# Altium schematic symbol library THD 4000 Series Components.SchLib: 125 symbols (part 2 of 3)
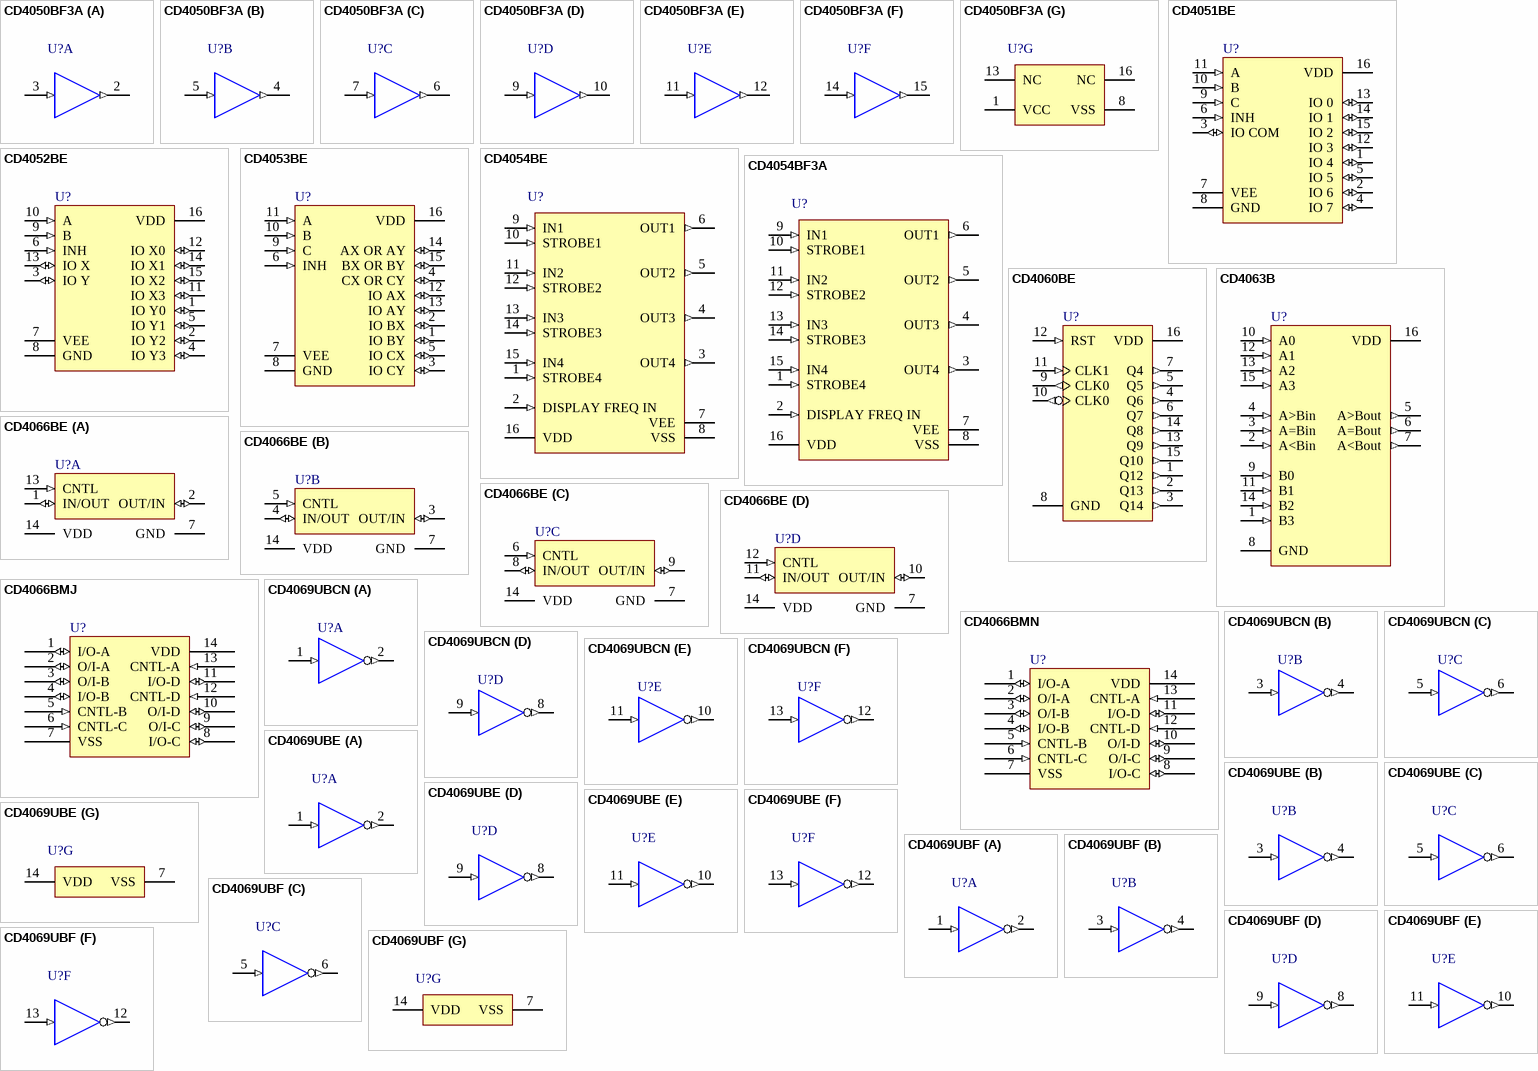
[diagram p8: symbols CD4050BF3A to CD4069UBF]

## CD4054BF3A
designator U?
CMOS 4-Segment Liquid-Crystal Display Driver, J0016A, TUBE; Generic Part Number: CD4054B-MIL; Manufacturer: Texas Instruments; PartNumber: CD4054BF3A; ICC @ Nom Voltage(Max)(mA): 0.06; F @ Nom Voltage(Max)(Mhz): 8; Rating: Military; Voltage(Nom)(V): 10; tpd @ Nom Voltage(Max)(ns): 800; DatasheetVersion: SCHS048C; PackageReference: J0016A; Operating Temperature Range(C): -55 to 125; ComponentLink1Description: Manufacturer URL; ComponentLink1URL: http://www.ti.com/; ComponentLink2Description: Datasheet; ComponentLink2URL: http://www.ti.com/lit/ds/symlink/cd4054b-mil.pdf; ComponentLink3Description: Package Specification; ComponentLink3URL: http://www.ti.com/lit/ml/mcer002d/mcer002d.pdf
footprint DIP16-300 (DIP, Molded; 16 Leads; Row Spacing 7.62 mm; Pitch 2.54 mm)
pins: 1 STROBE4 (in), 2 DISPLAY FREQ IN (in), 3 OUT4 (out), 4 OUT3 (out), 5 OUT2 (out), 6 OUT1 (out), 7 VEE (power), 8 VSS (power), 9 IN1 (in), 10 STROBE1 (in), 11 IN2 (in), 12 STROBE2 (in), 13 IN3 (in), 14 STROBE3 (in), 15 IN4 (in), 16 VDD (power)

## CD4060BE
designator U?
14-Stage Ripple Carry Binary Counter/Divider and Oscillator; Published: 8-Jun-2000; LatestRevisionDate: 06-Jun-2005; LatestRevisionNote: Stylized 3D Model Added.; DatasheetVersion: Sep-1988; PackageVersion: Apr-1996; PackageReference: DIP16; Publisher: Altium Limited; PackageDescription: DIP; 16 Leads; Row Spacing 7.62 mm; Pitch 2.54 mm; ComponentLink1Description: Manufacturer Link; ComponentLink1URL: http://www.st.com/
footprint DIP16-300 (DIP, Molded; 16 Leads; Row Spacing 7.62 mm; Pitch 2.54 mm)
pins: 1 Q12 (out), 2 Q13 (out), 3 Q14 (out), 4 Q6 (out), 5 Q5 (out), 6 Q7 (out), 7 Q4 (out), 8 GND (power), 9 CLK0 (out), 10 CLK0 (out), 11 CLK1 (in), 12 RST (in), 13 Q9 (out), 14 Q8 (out), 15 Q10 (out), 16 VDD (power)

## CD4063B
designator U?
4-Bit Magnitude Comparator; Published: 8-Jun-2000; LatestRevisionDate: 06-Jun-2005; LatestRevisionNote: Stylized 3D Model Added.; DatasheetVersion: Jun-1989; PackageVersion: Apr-1996; PackageReference: DIP16; Publisher: Altium Limited; PackageDescription: DIP; 16 Leads; Row Spacing 7.62 mm; Pitch 2.54 mm; ComponentLink1Description: Manufacturer Link; ComponentLink1URL: http://www.st.com/
footprint DIP16-300 (DIP, Molded; 16 Leads; Row Spacing 7.62 mm; Pitch 2.54 mm)
pins: 1 B3 (in), 2 A<Bin (in), 3 A=Bin (in), 4 A>Bin (in), 5 A>Bout (out), 6 A=Bout (out), 7 A<Bout (out), 8 GND (power), 9 B0 (in), 10 A0 (in), 11 B1 (in), 12 A1 (in), 13 A2 (in), 14 B2 (in), 15 A3 (in), 16 VDD (power)

## CD4066BE
designator U?
Quad Bilateral Switch For Transmission or Multiplexing of Analog or Digital Signals; Published: 8-Jun-2000; LatestRevisionDate: 04-Mar-2005; LatestRevisionNote: Stylized 3D Model Added.; DatasheetVersion: Jun-1989; PackageVersion: Jan-1997; PackageReference: DIP14; Publisher: Altium Limited; PackageDescription: DIP; 14 Leads; Row Spacing 7.62 mm; Pitch 2.54 mm; ComponentLink1Description: Manufacturer Link; ComponentLink1URL: http://www.st.com/; ComponentLink2Description: Datasheet; ComponentLink2URL: http://www.st.com/stonline/products/literature/ds/2057/hcf4066.pdf
footprint DIP-14
pins on every part: 7 GND (power) hidden to GND, 14 VDD (power) hidden to VDD
part A pins: 1 IN/OUT (io), 2 OUT/IN (io), 13 CNTL (in)
part B pins: 3 OUT/IN (io), 4 IN/OUT (io), 5 CNTL (in)
part C pins: 6 CNTL (in), 8 IN/OUT (io), 9 OUT/IN (io)
part D pins: 10 OUT/IN (io), 11 IN/OUT (io), 12 CNTL (in)

## CD4066BMJ
designator U?
Quad Bilateral Switch; Manufacturer: National Semiconductor; Class: Logic; Published: 21/4/2004; Publisher: Yazgac Technologies; SubClass: Switch
footprint DIP-14
pins: 1 I/O-A (io), 2 O/I-A (io), 3 O/I-B (io), 4 I/O-B (io), 5 CNTL-B (in), 6 CNTL-C (in), 7 VSS (power), 8 I/O-C (io), 9 O/I-C (io), 10 O/I-D (io), 11 I/O-D (io), 12 CNTL-D (in), 13 CNTL-A (in), 14 VDD (power)

## CD4066BMN
designator U?
Quad Bilateral Switch; Manufacturer: National Semiconductor; Class: Logic; Published: 21/04/2004; Publisher: Yazgac Technologies; SubClass: Switch
footprint DIP-14
pins: 1 I/O-A (io), 2 O/I-A (io), 3 O/I-B (io), 4 I/O-B (io), 5 CNTL-B (in), 6 CNTL-C (in), 7 VSS (power), 8 I/O-C (io), 9 O/I-C (io), 10 O/I-D (io), 11 I/O-D (io), 12 CNTL-D (in), 13 CNTL-A (in), 14 VDD (power)

## CD4069UBCN
designator U?
Hex Inverter, 14-Pin PDIP; IC_Technology: C; Published: 17-Jul-2002; LatestRevisionDate: 29-May-2009; LatestRevisionNote: Component Body Added.; DatasheetVersion: Jan-1999; PackageVersion: 2000; PackageReference: N14A; Publisher: Altium Limited; PackageDescription: DIP, 14-Pin, Row Spacing 7.62 mm, Pitch 2.54 mm; ComponentLink1Description: Manufacturer Link; ComponentLink1URL: http://www.fairchildsemi.com/; ComponentLink2Description: Datasheet; ComponentLink2URL: http://www.fairchildsemi.com/ds/CD%2FCD4069UBC.pdf
footprint DIP-14
pins on every part: 7 GND (power) hidden to GND, 14 VDD (power) hidden to VDD
part A pins: 1 I (in), 2 O (out)
part B pins: 3 I (in), 4 O (out)
part C pins: 5 I (in), 6 O (out)
part D pins: 8 O (out), 9 I (in)
part E pins: 10 O (out), 11 I (in)
part F pins: 12 O (out), 13 I (in)

## CD4069UBE
designator U?
CMOS Hex Inverter, N0014A, TUBE; Generic Part Number: CD4069UB; Manufacturer: Texas Instruments; PartNumber: CD4069UBE; VCC(Max)(V): 18; VCC(Min)(V): 3; ICC @ Nom Voltage(Max)(mA): 0.0075; Bits(#): 6; F @ Nom Voltage(Max)(Mhz): 12; Rating: Catalog; Technology Family: CD4000; Voltage(Nom)(V): 5; Schmitt Trigger: No; Output Drive (IOL/IOH)(Max)(mA): -1/1; tpd @ Nom Voltage(Max)(ns): 110; DatasheetVersion: SCHS054C; PackageReference: N0014A; Output Type: CMOS; Input Type: CMOS; Operating Temperature Range(C): -55 to 125; ComponentLink1Description: Manufacturer URL; ComponentLink1URL: http://www.ti.com/; ComponentLink2Description: Datasheet; ComponentLink2URL: http://www.ti.com/lit/ds/symlink/cd4069ub.pdf; ComponentLink3Description: Package Specification; ComponentLink3URL: http://www.ti.com/lit/ml/mpdi002c/mpdi002c.pdf
footprint DIP-14
part A pins: 1 A (in), 2 G=~{A} (out)
part B pins: 3 B (in), 4 H=~{B} (out)
part C pins: 5 C (in), 6 I=~{C} (out)
part D pins: 8 J=~{D} (out), 9 D (in)
part E pins: 10 K=~{E} (out), 11 E (in)
part F pins: 12 L=~{F} (out), 13 F (in)
part G pins: 7 VSS (power), 14 VDD (power)

## CD4069UBF
designator U?
CMOS Hex Inverter, J0014A, TUBE; Generic Part Number: CD4069UB-MIL; Manufacturer: Texas Instruments; PartNumber: CD4069UBF; VCC(Max)(V): 18; VCC(Min)(V): 3; ICC @ Nom Voltage(Max)(mA): 0.0075; F @ Nom Voltage(Max)(Mhz): 12; Rating: Military; Technology Family: CD4000; Voltage(Nom)(V): 5; Schmitt Trigger: No; tpd @ Nom Voltage(Max)(ns): 110; DatasheetVersion: SCHS054C; PackageReference: J0014A; Output Type: CMOS; Input Type: CMOS; Operating Temperature Range(C): -55 to 125; ComponentLink1Description: Manufacturer URL; ComponentLink1URL: http://www.ti.com/; ComponentLink2Description: Datasheet; ComponentLink2URL: http://www.ti.com/lit/ds/symlink/cd4069ub-mil.pdf; ComponentLink3Description: Package Specification; ComponentLink3URL: http://www.ti.com/lit/ml/mcer002d/mcer002d.pdf
footprint DIP-14
part A pins: 1 A (in), 2 G=~{A} (out)
part B pins: 3 B (in), 4 H=~{B} (out)
part C pins: 5 C (in), 6 I=~{C} (out)
part D pins: 8 J=~{D} (out), 9 D (in)
part E pins: 10 K=~{E} (out), 11 E (in)
part F pins: 12 L=~{F} (out), 13 F (in)
part G pins: 7 VSS (power), 14 VDD (power)

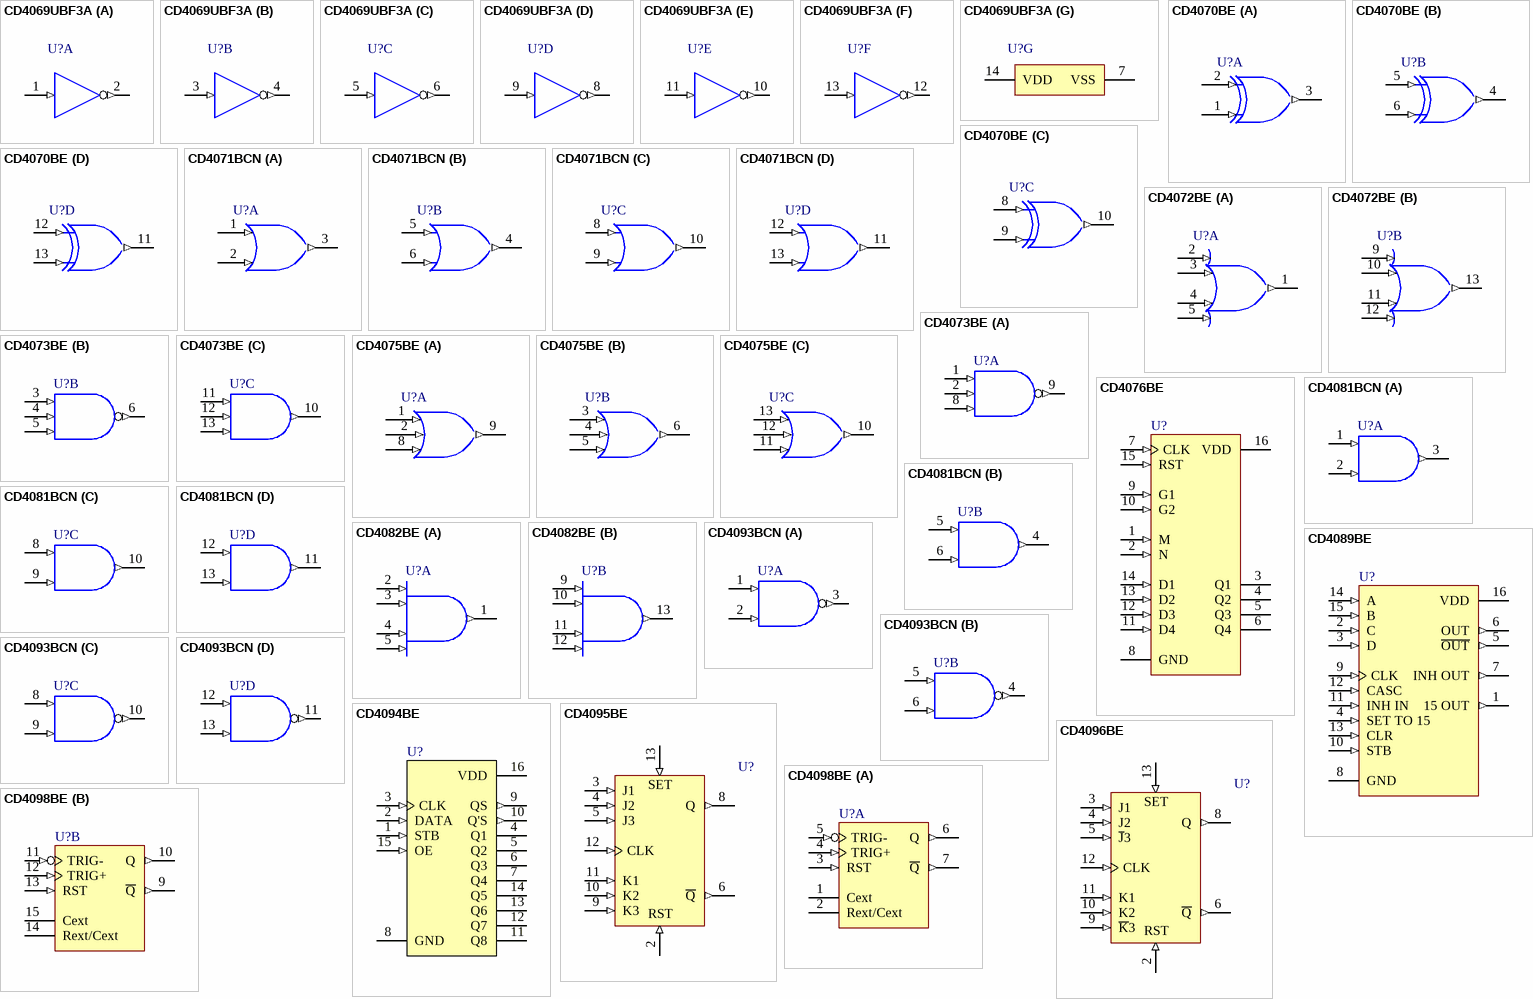
[diagram p5: symbols CD4069UBF3A to CD4098BE]

## CD4069UBF3A
designator U?
CMOS Hex Inverter, J0014A, TUBE; Generic Part Number: CD4069UB-MIL; Manufacturer: Texas Instruments; PartNumber: CD4069UBF3A; VCC(Max)(V): 18; VCC(Min)(V): 3; ICC @ Nom Voltage(Max)(mA): 0.0075; F @ Nom Voltage(Max)(Mhz): 12; Rating: Military; Technology Family: CD4000; Voltage(Nom)(V): 5; Schmitt Trigger: No; tpd @ Nom Voltage(Max)(ns): 110; DatasheetVersion: SCHS054C; PackageReference: J0014A; Output Type: CMOS; Input Type: CMOS; Operating Temperature Range(C): -55 to 125; ComponentLink1Description: Manufacturer URL; ComponentLink1URL: http://www.ti.com/; ComponentLink2Description: Datasheet; ComponentLink2URL: http://www.ti.com/lit/ds/symlink/cd4069ub-mil.pdf; ComponentLink3Description: Package Specification; ComponentLink3URL: http://www.ti.com/lit/ml/mcer002d/mcer002d.pdf
footprint DIP-14
part A pins: 1 A (in), 2 G=~{A} (out)
part B pins: 3 B (in), 4 H=~{B} (out)
part C pins: 5 C (in), 6 I=~{C} (out)
part D pins: 8 J=~{D} (out), 9 D (in)
part E pins: 10 K=~{E} (out), 11 E (in)
part F pins: 12 L=~{F} (out), 13 F (in)
part G pins: 7 VSS (power), 14 VDD (power)

## CD4070BE
designator U?
Quad Exclusive OR Gate, 14-Pin PDIP; IC_Technology: C; Published: 17-Jul-2002; LatestRevisionDate: 29-May-2009; LatestRevisionNote: Component Body Added.; DatasheetVersion: Jan-1999; PackageVersion: 2000; PackageReference: N14A; Publisher: Altium Limited; PackageDescription: DIP, 14-Pin, Row Spacing 7.62 mm, Pitch 2.54 mm; ComponentLink1Description: Manufacturer Link; ComponentLink1URL: http://www.fairchildsemi.com/
footprint DIP-14
pins on every part: 7 GND (power) hidden to GND, 14 VDD (power) hidden to VDD
part A pins: 1 B (in), 2 A (in), 3 J (out)
part B pins: 4 J (out), 5 A (in), 6 B (in)
part C pins: 8 A (in), 9 B (in), 10 J (out)
part D pins: 11 J (out), 12 A (in), 13 B (in)

## CD4071BCN
designator U?
Quad 2-Input OR Buffered B series Gate, 14-Pin PDIP; IC_Technology: C; Published: 17-Jul-2002; LatestRevisionDate: 29-May-2009; LatestRevisionNote: Component Body Added.; DatasheetVersion: Jan-1999; PackageVersion: 2000; PackageReference: N14A; Publisher: Altium Limited; PackageDescription: DIP, 14-Pin, Row Spacing 7.62 mm, Pitch 2.54 mm; ComponentLink1Description: Manufacturer Link; ComponentLink1URL: http://www.fairchildsemi.com/; ComponentLink2Description: Datasheet; ComponentLink2URL: http://www.fairchildsemi.com/ds/CD%2FCD4071BC.pdf
footprint DIP-14
pins on every part: 7 GND (power) hidden to GND, 14 VDD (power) hidden to VDD
part A pins: 1 A (in), 2 B (in), 3 J (out)
part B pins: 4 J (out), 5 A (in), 6 B (in)
part C pins: 8 A (in), 9 B (in), 10 J (out)
part D pins: 11 J (out), 12 A (in), 13 B (in)

## CD4072BE
designator U?
Dual 4-Input OR Gate; Note: Pins 6 and 8 are not connected and not drawn.; Published: 8-Jun-2000; LatestRevisionDate: 06-Jun-2005; LatestRevisionNote: Stylized 3D Model Added.; DatasheetVersion: Sep-1988; PackageVersion: Jan-1997; PackageReference: DIP14; Publisher: Altium Limited; PackageDescription: DIP; 14 Leads; Row Spacing 7.62 mm; Pitch 2.54 mm; ComponentLink1Description: Manufacturer Link; ComponentLink1URL: http://www.st.com/; ComponentLink2Description: Datasheet; ComponentLink2URL: http://www.st.com/stonline/products/literature/ds/8099/hcf4002.pdf
footprint DIP-14
pins on every part: 7 GND (power) hidden to GND, 14 VDD (power) hidden to VDD
part A pins: 1 O (out), 2 A (in), 3 B (in), 4 C (in), 5 D (in)
part B pins: 9 E (in), 10 F (in), 11 G (in), 12 H (in), 13 O (out)

## CD4073BE
designator U?
Double Buffered Triple 3-Input AND Gate; IC_Technology: C; Published: 17-Jul-2002; LatestRevisionDate: 13-Apr-2006; LatestRevisionNote: IPC-7351 Footprint Added.; DatasheetVersion: Jun-1999; PackageVersion: 2000; PackageReference: M14B; Publisher: Altium Limited; PackageDescription: 14-Pin Small Outline Integrated Circuit 1.27 mm Pitch; Code_JEDEC: MS-013-AF; Code_IPC: SOIC127P1030-14; ComponentLink1Description: Manufacturer Link; ComponentLink1URL: http://www.fairchildsemi.com/; ComponentLink2Description: Datasheet; ComponentLink2URL: http://www.fairchildsemi.com/ds/CD%2FCD4023BC.pdf
footprint DIP-14
pins on every part: 7 GND (power) hidden to GND, 14 VDD (power) hidden to VDD
part A pins: 1 A (in), 2 B (in), 8 C (in), 9 J (out)
part B pins: 3 A (in), 4 B (in), 5 C (in), 6 J (out)
part C pins: 10 J (out), 11 A (in), 12 B (in), 13 C (in)

## CD4075BE
designator U?
Double Buffered Triple 3-Input OR Gate; Published: 8-Jun-2000; LatestRevisionDate: 06-Jun-2005; LatestRevisionNote: Stylized 3D Model Added.; DatasheetVersion: Sep-1988; PackageReference: CDIP14; Publisher: Altium Limited; PackageDescription: DIP; 14 Leads; Row Spacing 7.62 mm; Pitch 2.54 mm; ComponentLink1Description: Manufacturer Link; ComponentLink1URL: http://www.st.com/
footprint DIP-14
pins on every part: 7 GND (power) hidden to GND, 14 VDD (power) hidden to VDD
part A pins: 1 A (in), 2 B (in), 8 C (in), 9 J (out)
part B pins: 3 D (in), 4 E (in), 5 F (in), 6 K (out)
part C pins: 10 L (out), 11 I (in), 12 H (in), 13 G (in)

## CD4076BE
designator U?
4-Bit D-Type Register; Published: 8-Jun-2000; LatestRevisionDate: 06-Jun-2005; LatestRevisionNote: Stylized 3D Model Added.; DatasheetVersion: Sep-1988; PackageVersion: Apr-1996; PackageReference: DIP16; Publisher: Altium Limited; PackageDescription: DIP; 16 Leads; Row Spacing 7.62 mm; Pitch 2.54 mm; ComponentLink1Description: Manufacturer Link; ComponentLink1URL: http://www.st.com/
footprint DIP16-300 (DIP, Molded; 16 Leads; Row Spacing 7.62 mm; Pitch 2.54 mm)
pins: 1 M (in), 2 N (in), 3 Q1 (hiz), 4 Q2 (hiz), 5 Q3 (hiz), 6 Q4 (hiz), 7 CLK (in), 8 GND (power), 9 G1 (in), 10 G2 (in), 11 D4 (in), 12 D3 (in), 13 D2 (in), 14 D1 (in), 15 RST (in), 16 VDD (power)

## CD4081BCN
designator U?
Quad 2-Input AND Buffered B series Gate, 14-Pin PDIP; IC_Technology: C; Published: 17-Jul-2002; LatestRevisionDate: 29-May-2009; LatestRevisionNote: Component Body Added.; DatasheetVersion: Jan-1999; PackageVersion: 2000; PackageReference: N14A; Publisher: Altium Limited; PackageDescription: DIP, 14-Pin, Row Spacing 7.62 mm, Pitch 2.54 mm; ComponentLink1Description: Manufacturer Link; ComponentLink1URL: http://www.fairchildsemi.com/; ComponentLink2Description: Datasheet; ComponentLink2URL: http://www.fairchildsemi.com/ds/CD%2FCD4071BC.pdf
footprint DIP-14
pins on every part: 7 GND (power) hidden to GND, 14 VDD (power) hidden to VDD
part A pins: 1 A (in), 2 B (in), 3 J (out)
part B pins: 4 J (out), 5 A (in), 6 B (in)
part C pins: 8 A (in), 9 B (in), 10 J (out)
part D pins: 11 J (out), 12 A (in), 13 B (in)

## CD4082BE
designator U?
Dual 4-Input NAND Gate,  Commerical Grade; IC_Technology: AC; Note: Pins 3 and 11 are NC & not drawn.; Published: 17-Jul-2002; LatestRevisionDate: 13-Apr-2006; LatestRevisionNote: IPC-7351 Footprint Added.; DatasheetVersion: Nov-1999; PackageVersion: 2000; PackageReference: M14D; Publisher: Altium Limited; PackageDescription: 14-Pin Small Outline Package 1.27 mm Pitch; ComponentLink1Description: Manufacturer Link; ComponentLink1URL: http://www.fairchildsemi.com/; ComponentLink2Description: Datasheet; ComponentLink2URL: http://www.fairchildsemi.com/ds/74%2F74AC20.pdf
footprint DIP-14
pins on every part: 7 GND (power) hidden to GND, 14 VDD (power) hidden to VCC
part A pins: 1 O (out), 2 A (in), 3 B (in), 4 C (in), 5 D (in)
part B pins: 9 D (in), 10 C (in), 11 B (in), 12 A (in), 13 O (out)

## CD4089BE
designator U?
Binary Rate Multiplier; Published: 8-Jun-2000; LatestRevisionDate: 06-Jun-2005; LatestRevisionNote: Stylized 3D Model Added.; DatasheetVersion: Jun-1989; PackageVersion: Apr-1996; PackageReference: DIP16; Publisher: Altium Limited; PackageDescription: DIP; 16 Leads; Row Spacing 7.62 mm; Pitch 2.54 mm; ComponentLink1Description: Manufacturer Link; ComponentLink1URL: http://www.st.com/
footprint DIP16-300 (DIP, Molded; 16 Leads; Row Spacing 7.62 mm; Pitch 2.54 mm)
pins: 1 15 OUT (out), 2 C (in), 3 D (in), 4 SET TO 15 (in), 5 ~{OUT} (out), 6 OUT (out), 7 INH OUT (out), 8 GND (power), 9 CLK (in), 10 STB (in), 11 INH IN (in), 12 CASC (in), 13 CLR (in), 14 A (in), 15 B (in), 16 VDD (power)

## CD4093BCN
designator U?
Quad 2-Input Schmitt-Trigger NAND Gate, 14-Pin PDIP; IC_Technology: C; Published: 17-Jul-2002; LatestRevisionDate: 29-May-2009; LatestRevisionNote: Component Body Added.; DatasheetVersion: Jan-1999; PackageVersion: 2000; PackageReference: N14A; Publisher: Altium Limited; PackageDescription: DIP, 14-Pin, Row Spacing 7.62 mm, Pitch 2.54 mm; ComponentLink1Description: Manufacturer Link; ComponentLink1URL: http://www.fairchildsemi.com/; ComponentLink2Description: Datasheet; ComponentLink2URL: http://www.fairchildsemi.com/ds/CD%2FCD4093BC.pdf
footprint DIP-14
pins on every part: 7 GND (power) hidden to GND, 14 VCC (power) hidden to VCC
part A pins: 1 A (in), 2 B (in), 3 J (out)
part B pins: 4 K (out), 5 C (in), 6 D (in)
part C pins: 8 E (in), 9 F (in), 10 L (out)
part D pins: 11 M (out), 12 G (in), 13 H (in)

## CD4094BE
designator U?
8-Stage Shift-AND-Store Bus Register; Published: 8-Jun-2000; LatestRevisionDate: 06-Jun-2005; LatestRevisionNote: Stylized 3D Model Added.; DatasheetVersion: Jun-1989; PackageVersion: Apr-1996; PackageReference: DIP16; Publisher: Altium Limited; PackageDescription: DIP; 16 Leads; Row Spacing 7.62 mm; Pitch 2.54 mm; ComponentLink1Description: Manufacturer Link; ComponentLink1URL: http://www.st.com/
footprint DIP16-300 (DIP, Molded; 16 Leads; Row Spacing 7.62 mm; Pitch 2.54 mm)
pins: 1 STB (in), 2 DATA (in), 3 CLK (in), 4 Q1 (hiz), 5 Q2 (hiz), 6 Q3 (hiz), 7 Q4 (hiz), 8 GND (power), 9 QS (out), 10 Q'S (out), 11 Q8 (hiz), 12 Q7 (hiz), 13 Q6 (hiz), 14 Q5 (hiz), 15 OE (in), 16 VDD (power)

## CD4095BE
designator U?
Gate J-K Master-Slave Flip-Flop; Note: Pin 1 is not connected and not drawn.; Published: 8-Jun-2000; LatestRevisionDate: 06-Jun-2005; LatestRevisionNote: Stylized 3D Model Added.; DatasheetVersion: Sep-1988; PackageReference: CDIP14; Publisher: Altium Limited; PackageDescription: DIP; 14 Leads; Row Spacing 7.62 mm; Pitch 2.54 mm; ComponentLink1Description: Manufacturer Link; ComponentLink1URL: http://www.st.com/
footprint DIP-14
pins: 2 RST (in), 3 J1 (in), 4 J2 (in), 5 J3 (in), 6 ~{Q} (out), 7 GND (power) hidden to GND, 8 Q (out), 9 K3 (in), 10 K2 (in), 11 K1 (in), 12 CLK (in), 13 S (in), 14 VDD (power) hidden to VDD
text: SET

## CD4096BE
designator U?
Gate J-K Master-Slave Flip-Flop; Note: Pin 1 is not connected and not drawn.; Published: 8-Jun-2000; LatestRevisionDate: 06-Jun-2005; LatestRevisionNote: Stylized 3D Model Added.; DatasheetVersion: Sep-1988; PackageReference: CDIP14; Publisher: Altium Limited; PackageDescription: DIP; 14 Leads; Row Spacing 7.62 mm; Pitch 2.54 mm; ComponentLink1Description: Manufacturer Link; ComponentLink1URL: http://www.st.com/
footprint DIP-14
pins: 2 RST (in), 3 J1 (in), 4 J2 (in), 5 ~{J}3 (in), 6 ~{Q} (out), 7 GND (power) hidden to GND, 8 Q (out), 9 ~{K}3 (in), 10 K2 (in), 11 K1 (in), 12 CLK (in), 13 S (in), 14 VDD (power) hidden to VDD
text: SET

## CD4098BE
designator U?
Dual Monostable Multivibrator; Published: 8-Jun-2000; LatestRevisionDate: 06-Jun-2005; LatestRevisionNote: Stylized 3D Model Added.; DatasheetVersion: Jun-1989; PackageVersion: Apr-1996; PackageReference: DIP16; Publisher: Altium Limited; PackageDescription: DIP; 16 Leads; Row Spacing 7.62 mm; Pitch 2.54 mm; ComponentLink1Description: Manufacturer Link; ComponentLink1URL: http://www.st.com/
footprint DIP16-300 (DIP, Molded; 16 Leads; Row Spacing 7.62 mm; Pitch 2.54 mm)
pins on every part: 8 GND (power) hidden to GND, 16 VCC (power) hidden to VCC
part A pins: 1 Cext, 2 Rext/Cext, 3 RST (in), 4 TRIG+ (in), 5 TRIG- (in), 6 Q (out), 7 ~{Q} (out)
part B pins: 9 ~{Q} (out), 10 Q (out), 11 TRIG- (in), 12 TRIG+ (in), 13 RST (in), 14 Rext/Cext, 15 Cext

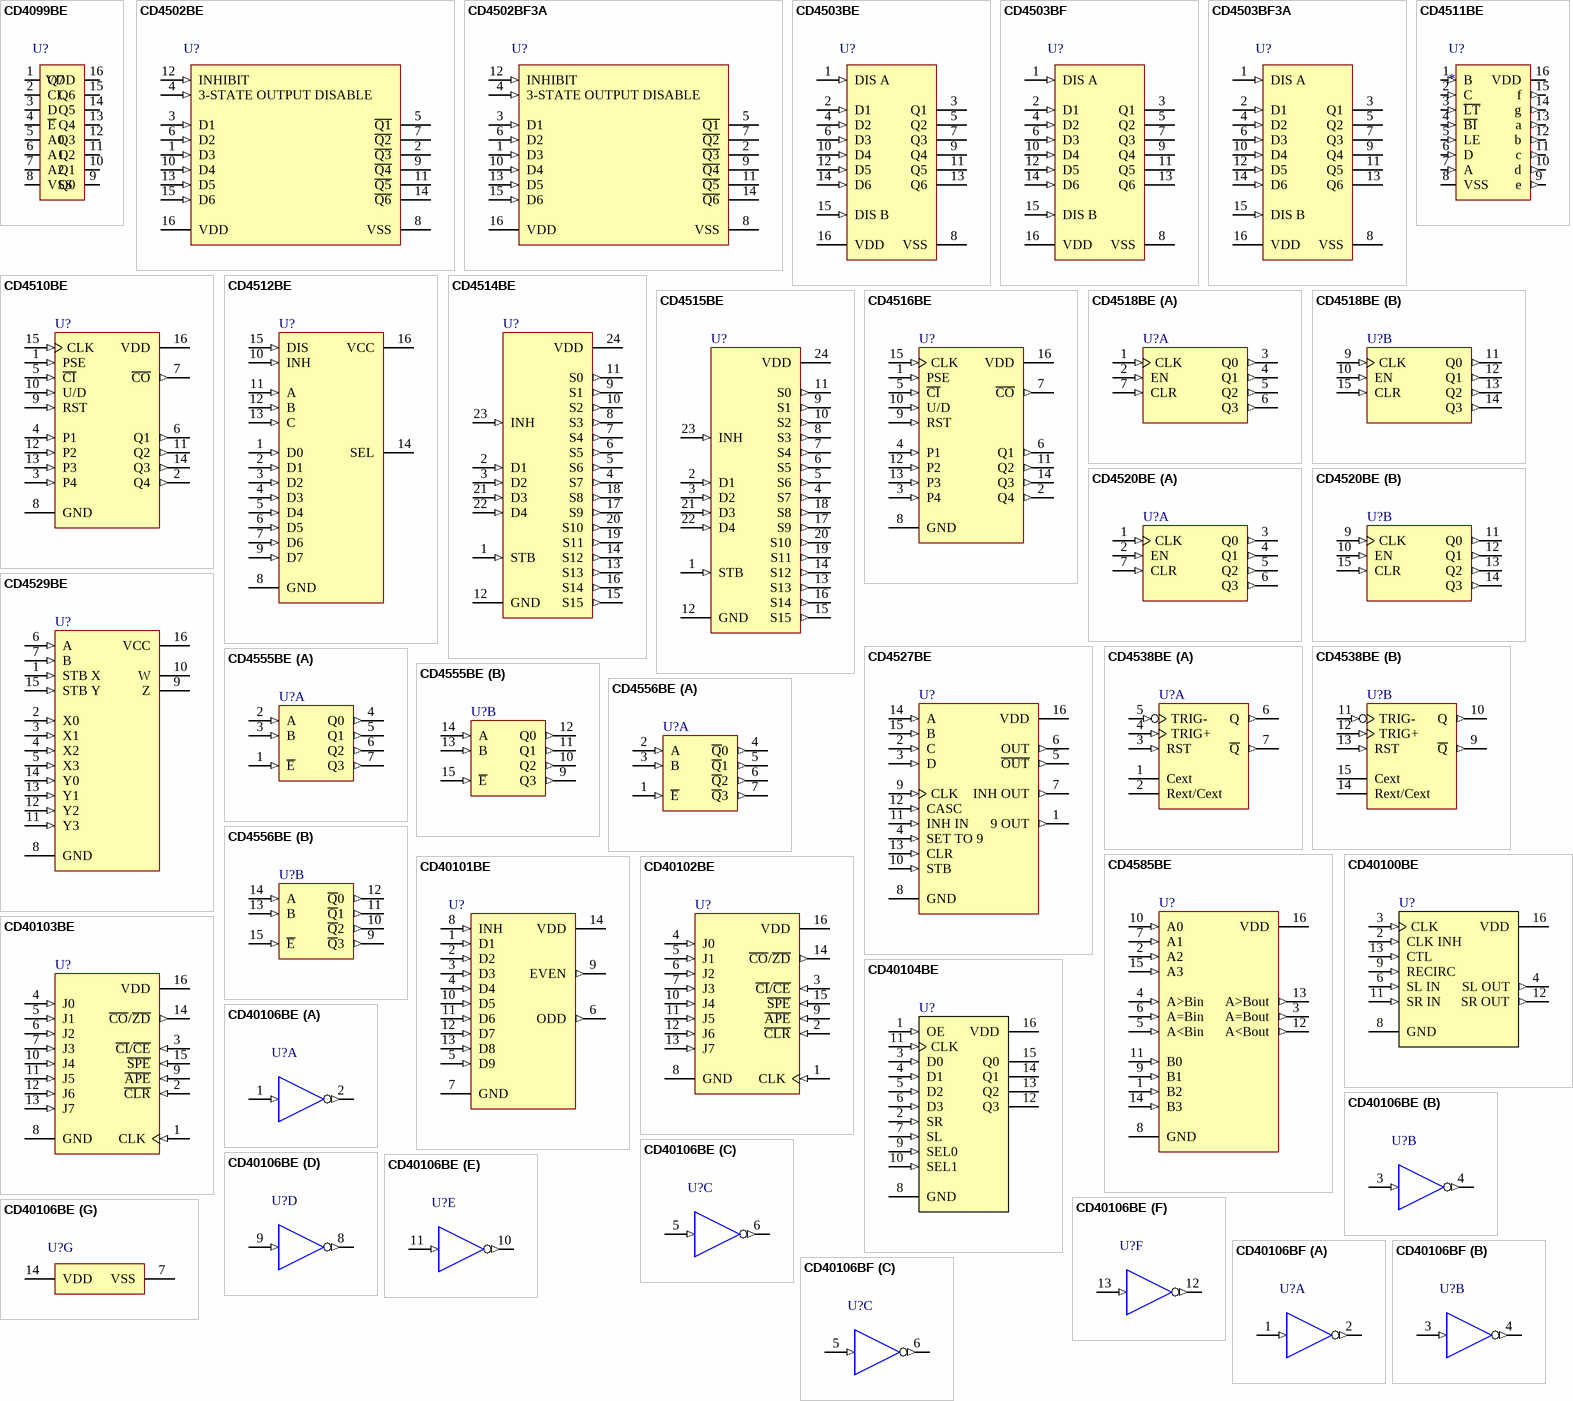
[diagram p6: symbols CD4099BE to CD40106BF]

## CD4099BE
designator U?
8-Bit Addressable Latch
footprint DIP16-300 (DIP, Molded; 16 Leads; Row Spacing 7.62 mm; Pitch 2.54 mm)
pins: 1 Q7, 2 CL, 3 D, 4 ~{E}, 5 A0, 6 A1, 7 A2, 8 VSS, 9 Q0, 10 Q1, 11 Q2, 12 Q3, 13 Q4, 14 Q5, 15 Q6, 16 VDD

## CD4502BE
designator U?
CMOS Strobed Hex Inverter/Buffer with 3-State Outputs, N0016A, TUBE; Generic Part Number: CD4502B; Manufacturer: Texas Instruments; PartNumber: CD4502BE; VCC(Max)(V): 18; VCC(Min)(V): 3; ICC @ Nom Voltage(Max)(mA): 0.03; Bits(#): 6; F @ Nom Voltage(Max)(Mhz): 12; Rating: Catalog; Technology Family: CD4000; Voltage(Nom)(V): 5; Schmitt Trigger: No; Output Drive (IOL/IOH)(Max)(mA): -1/6; tpd @ Nom Voltage(Max)(ns): 380; DatasheetVersion: SCHS067B; PackageReference: N0016A; Output Type: CMOS; Input Type: CMOS; Operating Temperature Range(C): -55 to 125; ComponentLink1Description: Manufacturer URL; ComponentLink1URL: http://www.ti.com/; ComponentLink2Description: Datasheet; ComponentLink2URL: http://www.ti.com/lit/ds/symlink/cd4502b.pdf; ComponentLink3Description: Package Specification; ComponentLink3URL: http://www.ti.com/lit/ml/mpdi002c/mpdi002c.pdf
footprint DIP16-300 (DIP, Molded; 16 Leads; Row Spacing 7.62 mm; Pitch 2.54 mm)
pins: 1 D3 (in), 2 ~{Q3} (hiz), 3 D1 (in), 4 3-STATE OUTPUT DISABLE (in), 5 ~{Q1} (hiz), 6 D2 (in), 7 ~{Q2} (hiz), 8 VSS (power), 9 ~{Q4} (hiz), 10 D4 (in), 11 ~{Q5} (hiz), 12 INHIBIT (in), 13 D5 (in), 14 ~{Q6} (hiz), 15 D6 (in), 16 VDD (power)

## CD4502BF3A
designator U?
CMOS Strobed Hex Inverter/Buffer with 3-State Outputs, J0016A, TUBE; Generic Part Number: CD4502B-MIL; Manufacturer: Texas Instruments; PartNumber: CD4502BF3A; VCC(Max)(V): 18; VCC(Min)(V): 3; ICC @ Nom Voltage(Max)(mA): 0.03; Bits(#): 6; F @ Nom Voltage(Max)(Mhz): 12; Rating: Military; Technology Family: CD4000; Voltage(Nom)(V): 5; Schmitt Trigger: No; Output Drive (IOL/IOH)(Max)(mA): -1/6; tpd @ Nom Voltage(Max)(ns): 380; DatasheetVersion: SCHS067B; PackageReference: J0016A; Output Type: CMOS; Input Type: CMOS; Operating Temperature Range(C): -55 to 125; ComponentLink1Description: Manufacturer URL; ComponentLink1URL: http://www.ti.com/; ComponentLink2Description: Datasheet; ComponentLink2URL: http://www.ti.com/lit/ds/symlink/cd4502b-mil.pdf; ComponentLink3Description: Package Specification; ComponentLink3URL: http://www.ti.com/lit/ml/mcer002d/mcer002d.pdf
footprint DIP16-300 (DIP, Molded; 16 Leads; Row Spacing 7.62 mm; Pitch 2.54 mm)
pins: 1 D3 (in), 2 ~{Q3} (hiz), 3 D1 (in), 4 3-STATE OUTPUT DISABLE (in), 5 ~{Q1} (hiz), 6 D2 (in), 7 ~{Q2} (hiz), 8 VSS (power), 9 ~{Q4} (hiz), 10 D4 (in), 11 ~{Q5} (hiz), 12 INHIBIT (in), 13 D5 (in), 14 ~{Q6} (hiz), 15 D6 (in), 16 VDD (power)

## CD4503BE
designator U?
CMOS Hex Non-Inverting Buffer with 3-State Outputs, N0016A, TUBE; Generic Part Number: CD4503B; Manufacturer: Texas Instruments; PartNumber: CD4503BE; VCC(Min)(V): 3; VCC(Max)(V): 18; ICC @ Nom Voltage(Max)(mA): 0.06; Bits(#): 6; F @ Nom Voltage(Max)(Mhz): 8; Rating: Catalog; Voltage(Nom)(V): 10; tpd @ Nom Voltage(Max)(ns): 150; DatasheetVersion: SCHS068C; PackageReference: N0016A; Output Type: CMOS; Input Type: CMOS; Operating Temperature Range(C): -55 to 125; Code_JEDEC: MS-001; ComponentLink1Description: Manufacturer URL; ComponentLink1URL: http://www.ti.com/; ComponentLink2Description: Datasheet; ComponentLink2URL: http://www.ti.com/lit/ds/symlink/cd4503b.pdf; ComponentLink3Description: Package Specification; ComponentLink3URL: http://www.ti.com/lit/ml/mpdi002c/mpdi002c.pdf
footprint DIP16-300 (DIP, Molded; 16 Leads; Row Spacing 7.62 mm; Pitch 2.54 mm)
pins: 1 DIS A (in), 2 D1 (in), 3 Q1 (hiz), 4 D2 (in), 5 Q2 (hiz), 6 D3 (in), 7 Q3 (hiz), 8 VSS (power), 9 Q4 (hiz), 10 D4 (in), 11 Q5 (hiz), 12 D5 (in), 13 Q6 (hiz), 14 D6 (in), 15 DIS B (in), 16 VDD (power)

## CD4503BF
designator U?
CMOS Hex Non-Inverting Buffer with 3-State Outputs, J0016A, TUBE; Generic Part Number: CD4503B-MIL; Manufacturer: Texas Instruments; PartNumber: CD4503BF; VCC(Min)(V): 3; VCC(Max)(V): 18; ICC @ Nom Voltage(Max)(mA): 0.06; F @ Nom Voltage(Max)(Mhz): 8; Rating: Military; tpd @ Nom Voltage(Max)(ns): 150; DatasheetVersion: SCHS068C; PackageReference: J0016A; Output Type: CMOS; Input Type: CMOS; Operating Temperature Range(C): -55 to 125; ComponentLink1Description: Manufacturer URL; ComponentLink1URL: http://www.ti.com/; ComponentLink2Description: Datasheet; ComponentLink2URL: http://www.ti.com/lit/ds/symlink/cd4503b-mil.pdf; ComponentLink3Description: Package Specification; ComponentLink3URL: http://www.ti.com/lit/ml/mcer002d/mcer002d.pdf
footprint DIP16-300 (DIP, Molded; 16 Leads; Row Spacing 7.62 mm; Pitch 2.54 mm)
pins: 1 DIS A (in), 2 D1 (in), 3 Q1 (hiz), 4 D2 (in), 5 Q2 (hiz), 6 D3 (in), 7 Q3 (hiz), 8 VSS (power), 9 Q4 (hiz), 10 D4 (in), 11 Q5 (hiz), 12 D5 (in), 13 Q6 (hiz), 14 D6 (in), 15 DIS B (in), 16 VDD (power)

## CD4503BF3A
designator U?
CMOS Hex Non-Inverting Buffer with 3-State Outputs, J0016A, TUBE; Generic Part Number: CD4503B-MIL; Manufacturer: Texas Instruments; PartNumber: CD4503BF3A; VCC(Min)(V): 3; VCC(Max)(V): 18; ICC @ Nom Voltage(Max)(mA): 0.06; F @ Nom Voltage(Max)(Mhz): 8; Rating: Military; tpd @ Nom Voltage(Max)(ns): 150; DatasheetVersion: SCHS068C; PackageReference: J0016A; Output Type: CMOS; Input Type: CMOS; Operating Temperature Range(C): -55 to 125; ComponentLink1Description: Manufacturer URL; ComponentLink1URL: http://www.ti.com/; ComponentLink2Description: Datasheet; ComponentLink2URL: http://www.ti.com/lit/ds/symlink/cd4503b-mil.pdf; ComponentLink3Description: Package Specification; ComponentLink3URL: http://www.ti.com/lit/ml/mcer002d/mcer002d.pdf
footprint DIP16-300 (DIP, Molded; 16 Leads; Row Spacing 7.62 mm; Pitch 2.54 mm)
pins: 1 DIS A (in), 2 D1 (in), 3 Q1 (hiz), 4 D2 (in), 5 Q2 (hiz), 6 D3 (in), 7 Q3 (hiz), 8 VSS (power), 9 Q4 (hiz), 10 D4 (in), 11 Q5 (hiz), 12 D5 (in), 13 Q6 (hiz), 14 D6 (in), 15 DIS B (in), 16 VDD (power)

## CD4510BE
designator U?
Presettable Up/Down Counter; Published: 8-Jun-2000; LatestRevisionDate: 06-Jun-2005; LatestRevisionNote: Stylized 3D Model Added.; DatasheetVersion: Nov-1996; PackageVersion: Apr-1996; PackageReference: DIP16; Publisher: Altium Limited; PackageDescription: DIP; 16 Leads; Row Spacing 7.62 mm; Pitch 2.54 mm; ComponentLink1Description: Manufacturer Link; ComponentLink1URL: http://www.st.com/
footprint DIP16-300 (DIP, Molded; 16 Leads; Row Spacing 7.62 mm; Pitch 2.54 mm)
pins: 1 PSE (in), 2 Q4 (out), 3 P4 (in), 4 P1 (in), 5 ~{CI} (in), 6 Q1 (out), 7 ~{CO} (out), 8 GND (power), 9 RST (in), 10 U/D (in), 11 Q2 (out), 12 P2 (in), 13 P3 (in), 14 Q3 (out), 15 CLK (in), 16 VDD (power)

## CD4511BE
designator U?
BCD to 7-Segment Latch/Decoder/Driver
footprint DIP16-300 (DIP, Molded; 16 Leads; Row Spacing 7.62 mm; Pitch 2.54 mm)
pins: 1 B (in), 2 C (in), 3 ~{LT} (in), 4 ~{BI} (in), 5 LE (in), 6 D (in), 7 A (in), 8 VSS, 9 e (out), 10 d (out), 11 c (out), 12 b (out), 13 a (out), 14 g (out), 15 f (out), 16 VDD

## CD4512BE
designator U?
8-Channel Data Selector; Published: 8-Jun-2000; LatestRevisionDate: 06-Jun-2005; LatestRevisionNote: Stylized 3D Model Added.; DatasheetVersion: Jun-1989; PackageVersion: Apr-1996; PackageReference: DIP16; Publisher: Altium Limited; PackageDescription: DIP; 16 Leads; Row Spacing 7.62 mm; Pitch 2.54 mm; ComponentLink1Description: Manufacturer Link; ComponentLink1URL: http://www.st.com/
footprint DIP16-300 (DIP, Molded; 16 Leads; Row Spacing 7.62 mm; Pitch 2.54 mm)
pins: 1 D0 (in), 2 D1 (in), 3 D2 (in), 4 D3 (in), 5 D4 (in), 6 D5 (in), 7 D6 (in), 8 GND (power), 9 D7 (in), 10 INH (in), 11 A (in), 12 B (in), 13 C (in), 14 SEL (hiz), 15 DIS (in), 16 VCC (power)

## CD4514BE
designator U?
4-Bit Latch/4-to-16 Line Decoder; Published: 8-Jun-2000; LatestRevisionDate: 06-Jun-2005; LatestRevisionNote: Stylized 3D Model Added.; DatasheetVersion: Jun-1989; PackageVersion: Sep-1988; PackageReference: CDIP24; Publisher: Altium Limited; PackageDescription: DIP; 24 Leads; Row Spacing 15.24 mm; Pitch 2.54 mm; ComponentLink1Description: Manufacturer Link; ComponentLink1URL: http://www.st.com/
footprint DIP-24-600 (DIP; 24 Leads; Row Spacing 15.24 mm; Pitch 2.54 mm)
pins: 1 STB (in), 2 D1 (in), 3 D2 (in), 4 S7 (out), 5 S6 (out), 6 S5 (out), 7 S4 (out), 8 S3 (out), 9 S1 (out), 10 S2 (out), 11 S0 (out), 12 GND (power), 13 S13 (out), 14 S12 (out), 15 S15 (out), 16 S14 (out), 17 S9 (out), 18 S8 (out), 19 S11 (out), 20 S10 (out), 21 D3 (in), 22 D4 (in), 23 INH (in), 24 VDD (power)

## CD4515BE
designator U?
4-Bit Latch/4-to-16 Line Decoder; Published: 8-Jun-2000; LatestRevisionDate: 06-Jun-2005; LatestRevisionNote: Stylized 3D Model Added.; DatasheetVersion: Jun-1989; PackageVersion: Sep-1988; PackageReference: CDIP24; Publisher: Altium Limited; PackageDescription: DIP; 24 Leads; Row Spacing 15.24 mm; Pitch 2.54 mm; ComponentLink1Description: Manufacturer Link; ComponentLink1URL: http://www.st.com/
footprint DIP-24-600 (DIP; 24 Leads; Row Spacing 15.24 mm; Pitch 2.54 mm)
pins: 1 STB (in), 2 D1 (in), 3 D2 (in), 4 S7 (out), 5 S6 (out), 6 S5 (out), 7 S4 (out), 8 S3 (out), 9 S1 (out), 10 S2 (out), 11 S0 (out), 12 GND (power), 13 S13 (out), 14 S12 (out), 15 S15 (out), 16 S14 (out), 17 S9 (out), 18 S8 (out), 19 S11 (out), 20 S10 (out), 21 D3 (in), 22 D4 (in), 23 INH (in), 24 VDD (power)

## CD4516BE
designator U?
Presettable Up/Down Counter; Published: 8-Jun-2000; LatestRevisionDate: 06-Jun-2005; LatestRevisionNote: Stylized 3D Model Added.; DatasheetVersion: Nov-1996; PackageVersion: Apr-1996; PackageReference: DIP16; Publisher: Altium Limited; PackageDescription: DIP; 16 Leads; Row Spacing 7.62 mm; Pitch 2.54 mm; ComponentLink1Description: Manufacturer Link; ComponentLink1URL: http://www.st.com/
footprint DIP16-300 (DIP, Molded; 16 Leads; Row Spacing 7.62 mm; Pitch 2.54 mm)
pins: 1 PSE (in), 2 Q4 (out), 3 P4 (in), 4 P1 (in), 5 ~{CI} (in), 6 Q1 (out), 7 ~{CO} (out), 8 GND (power), 9 RST (in), 10 U/D (in), 11 Q2 (out), 12 P2 (in), 13 P3 (in), 14 Q3 (out), 15 CLK (in), 16 VDD (power)

## CD4518BE
designator U?
Dual Decade Up-Counter; Published: 8-Jun-2000; LatestRevisionDate: 06-Jun-2005; LatestRevisionNote: Stylized 3D Model Added.; DatasheetVersion: Jun-1989; PackageVersion: Apr-1996; PackageReference: DIP16; Publisher: Altium Limited; PackageDescription: DIP; 16 Leads; Row Spacing 7.62 mm; Pitch 2.54 mm; ComponentLink1Description: Manufacturer Link; ComponentLink1URL: http://www.st.com/
footprint DIP16-300 (DIP, Molded; 16 Leads; Row Spacing 7.62 mm; Pitch 2.54 mm)
pins on every part: 8 GND (power) hidden to GND, 16 VDD (power) hidden to VDD
part A pins: 1 CLK (in), 2 EN (in), 3 Q0 (out), 4 Q1 (out), 5 Q2 (out), 6 Q3 (out), 7 CLR (in)
part B pins: 9 CLK (in), 10 EN (in), 11 Q0 (out), 12 Q1 (out), 13 Q2 (out), 14 Q3 (out), 15 CLR (in)

## CD4520BE
designator U?
Dual Binary Up-Counter; Published: 8-Jun-2000; LatestRevisionDate: 06-Jun-2005; LatestRevisionNote: Stylized 3D Model Added.; DatasheetVersion: Jun-1989; PackageVersion: Apr-1996; PackageReference: DIP16; Publisher: Altium Limited; PackageDescription: DIP; 16 Leads; Row Spacing 7.62 mm; Pitch 2.54 mm; ComponentLink1Description: Manufacturer Link; ComponentLink1URL: http://www.st.com/
footprint DIP16-300 (DIP, Molded; 16 Leads; Row Spacing 7.62 mm; Pitch 2.54 mm)
pins on every part: 8 GND (power) hidden to GND, 16 VDD (power) hidden to VDD
part A pins: 1 CLK (in), 2 EN (in), 3 Q0 (out), 4 Q1 (out), 5 Q2 (out), 6 Q3 (out), 7 CLR (in)
part B pins: 9 CLK (in), 10 EN (in), 11 Q0 (out), 12 Q1 (out), 13 Q2 (out), 14 Q3 (out), 15 CLR (in)

## CD4527BE
designator U?
BCD Rate Multiplexer; Published: 8-Jun-2000; LatestRevisionDate: 06-Jun-2005; LatestRevisionNote: Stylized 3D Model Added.; DatasheetVersion: Sep-1990; PackageVersion: Apr-1996; PackageReference: DIP16; Publisher: Altium Limited; PackageDescription: DIP; 16 Leads; Row Spacing 7.62 mm; Pitch 2.54 mm; ComponentLink1Description: Manufacturer Link; ComponentLink1URL: http://www.st.com/
footprint DIP16-300 (DIP, Molded; 16 Leads; Row Spacing 7.62 mm; Pitch 2.54 mm)
pins: 1 9 OUT (out), 2 C (in), 3 D (in), 4 SET TO 9 (in), 5 ~{OUT} (out), 6 OUT (out), 7 INH OUT (out), 8 GND (power), 9 CLK (in), 10 STB (in), 11 INH IN (in), 12 CASC (in), 13 CLR (in), 14 A (in), 15 B (in), 16 VDD (power)

## CD4529BE
designator U?
Dual 4-Channel or Single 8-Channel Analog Data Selector; Published: 8-Jun-2000; LatestRevisionDate: 06-Jun-2005; LatestRevisionNote: Stylized 3D Model Added.; DatasheetVersion: Sep-1988; PackageVersion: Apr-1996; PackageReference: DIP16; Publisher: Altium Limited; PackageDescription: DIP; 16 Leads; Row Spacing 7.62 mm; Pitch 2.54 mm; ComponentLink1Description: Manufacturer Link; ComponentLink1URL: http://www.st.com/
footprint DIP16-300 (DIP, Molded; 16 Leads; Row Spacing 7.62 mm; Pitch 2.54 mm)
pins: 1 STB X (in), 2 X0 (in), 3 X1 (in), 4 X2 (in), 5 X3 (in), 6 A (in), 7 B (in), 8 GND (power), 9 Z, 10 W, 11 Y3 (in), 12 Y2 (in), 13 Y1 (in), 14 Y0 (in), 15 STB Y (in), 16 VCC (power)

## CD4538BE
designator U?
Dual Monostable Multivibrator; Published: 8-Jun-2000; LatestRevisionDate: 06-Jun-2005; LatestRevisionNote: Stylized 3D Model Added.; DatasheetVersion: Sep-1988; PackageVersion: Apr-1996; PackageReference: DIP16; Publisher: Altium Limited; PackageDescription: DIP; 16 Leads; Row Spacing 7.62 mm; Pitch 2.54 mm; ComponentLink1Description: Manufacturer Link; ComponentLink1URL: http://www.st.com/
footprint DIP16-300 (DIP, Molded; 16 Leads; Row Spacing 7.62 mm; Pitch 2.54 mm)
pins on every part: 8 GND (power) hidden to GND, 16 VCC (power) hidden to VCC
part A pins: 1 Cext, 2 Rext/Cext, 3 RST (in), 4 TRIG+ (in), 5 TRIG- (in), 6 Q (out), 7 ~{Q} (out)
part B pins: 9 ~{Q} (out), 10 Q (out), 11 TRIG- (in), 12 TRIG+ (in), 13 RST (in), 14 Rext/Cext, 15 Cext

## CD4555BE
designator U?
Dual Binary to 1 of 4 Decoder/Demultiplexers; Published: 8-Jun-2000; LatestRevisionDate: 06-Jun-2005; LatestRevisionNote: Stylized 3D Model Added.; DatasheetVersion: Jun-1989; PackageVersion: Apr-1996; PackageReference: DIP16; Publisher: Altium Limited; PackageDescription: DIP; 16 Leads; Row Spacing 7.62 mm; Pitch 2.54 mm; ComponentLink1Description: Manufacturer Link; ComponentLink1URL: http://www.st.com/
footprint DIP16-300 (DIP, Molded; 16 Leads; Row Spacing 7.62 mm; Pitch 2.54 mm)
pins on every part: 8 GND (power) hidden to GND, 16 VDD (power) hidden to VDD
part A pins: 1 ~{E} (in), 2 A (in), 3 B (in), 4 Q0 (out), 5 Q1 (out), 6 Q2 (out), 7 Q3 (out)
part B pins: 9 Q3 (out), 10 Q2 (out), 11 Q1 (out), 12 Q0 (out), 13 B (in), 14 A (in), 15 ~{E} (in)

## CD4556BE
designator U?
Dual Binary to 1 of 4 Decoder/Demultiplexers; Published: 8-Jun-2000; LatestRevisionDate: 06-Jun-2005; LatestRevisionNote: Stylized 3D Model Added.; DatasheetVersion: Jun-1989; PackageVersion: Apr-1996; PackageReference: DIP16; Publisher: Altium Limited; PackageDescription: DIP; 16 Leads; Row Spacing 7.62 mm; Pitch 2.54 mm; ComponentLink1Description: Manufacturer Link; ComponentLink1URL: http://www.st.com/
footprint DIP16-300 (DIP, Molded; 16 Leads; Row Spacing 7.62 mm; Pitch 2.54 mm)
pins on every part: 8 GND (power) hidden to GND, 16 VDD (power) hidden to VDD
part A pins: 1 ~{E} (in), 2 A (in), 3 B (in), 4 ~{Q}0 (out), 5 ~{Q}1 (out), 6 ~{Q}2 (out), 7 ~{Q}3 (out)
part B pins: 9 ~{Q}3 (out), 10 ~{Q}2 (out), 11 ~{Q}1 (out), 12 ~{Q}0 (out), 13 B (in), 14 A (in), 15 ~{E} (in)

## CD4585BE
designator U?
4-Bit Magnitude Comparator; Published: 8-Jun-2000; LatestRevisionDate: 06-Jun-2005; LatestRevisionNote: Stylized 3D Model Added.; DatasheetVersion: Jun-1989; PackageVersion: Apr-1996; PackageReference: DIP16; Publisher: Altium Limited; PackageDescription: DIP; 16 Leads; Row Spacing 7.62 mm; Pitch 2.54 mm; ComponentLink1Description: Manufacturer Link; ComponentLink1URL: http://www.st.com/
footprint DIP16-300 (DIP, Molded; 16 Leads; Row Spacing 7.62 mm; Pitch 2.54 mm)
pins: 1 B2 (in), 2 A2 (in), 3 A=Bout (out), 4 A>Bin (in), 5 A<Bin (in), 6 A=Bin (in), 7 A1 (in), 8 GND (power), 9 B1 (in), 10 A0 (in), 11 B0 (in), 12 A<Bout (out), 13 A>Bout (out), 14 B3 (in), 15 A3 (in), 16 VDD (power)

## CD40100BE
designator U?
32-Stage Static Left/Right Shift Register; Note: Pins 1, 5, 7, 10, 14 and 15 are not connected and not drawn.; Published: 8-Jun-2000; LatestRevisionDate: 06-Jun-2005; LatestRevisionNote: Stylized 3D Model Added.; DatasheetVersion: Jun-1989; PackageVersion: Apr-1996; PackageReference: DIP16; Publisher: Altium Limited; PackageDescription: DIP; 16 Leads; Row Spacing 7.62 mm; Pitch 2.54 mm; ComponentLink1Description: Manufacturer Link; ComponentLink1URL: http://www.st.com/
footprint DIP16-300 (DIP, Molded; 16 Leads; Row Spacing 7.62 mm; Pitch 2.54 mm)
pins: 2 CLK INH (in), 3 CLK (in), 4 SL OUT (out), 6 SL IN (in), 8 GND (power), 9 RECIRC (in), 11 SR IN (in), 12 SR OUT (out), 13 CTL (in), 16 VDD (power)

## CD40101BE
designator U?
9-Bit Parity Generator/Checker; Published: 8-Jun-2000; LatestRevisionDate: 06-Jun-2005; LatestRevisionNote: Stylized 3D Model Added.; DatasheetVersion: Jun-1989; PackageReference: CDIP14; Publisher: Altium Limited; PackageDescription: DIP; 14 Leads; Row Spacing 7.62 mm; Pitch 2.54 mm; ComponentLink1Description: Manufacturer Link; ComponentLink1URL: http://www.st.com/
footprint DIP-14
pins: 1 D1 (in), 2 D2 (in), 3 D3 (in), 4 D4 (in), 5 D9 (in), 6 ODD (out), 7 GND (power), 8 INH (in), 9 EVEN (out), 10 D5 (in), 11 D6 (in), 12 D7 (in), 13 D8 (in), 14 VDD (power)

## CD40102BE
designator U?
8-Stage Presettable Synchronous Down Counter; Published: 8-Jun-2000; LatestRevisionDate: 06-Jun-2005; LatestRevisionNote: Stylized 3D Model Added.; DatasheetVersion: Jun-1989; PackageVersion: Apr-1996; PackageReference: DIP16; Publisher: Altium Limited; PackageDescription: DIP; 16 Leads; Row Spacing 7.62 mm; Pitch 2.54 mm; ComponentLink1Description: Manufacturer Link; ComponentLink1URL: http://www.st.com/
footprint DIP16-300 (DIP, Molded; 16 Leads; Row Spacing 7.62 mm; Pitch 2.54 mm)
pins: 1 CLK (in), 2 ~{CLR} (in), 3 ~{CI}/~{CE} (in), 4 J0 (in), 5 J1 (in), 6 J2 (in), 7 J3 (in), 8 GND (power), 9 ~{APE} (in), 10 J4 (in), 11 J5 (in), 12 J6 (in), 13 J7 (in), 14 ~{CO}/~{ZD} (out), 15 ~{SPE} (in), 16 VDD (power)

## CD40103BE
designator U?
8-Stage Presettable Synchronous Down Counter; Published: 8-Jun-2000; LatestRevisionDate: 06-Jun-2005; LatestRevisionNote: Stylized 3D Model Added.; DatasheetVersion: Jun-1989; PackageVersion: Apr-1996; PackageReference: DIP16; Publisher: Altium Limited; PackageDescription: DIP; 16 Leads; Row Spacing 7.62 mm; Pitch 2.54 mm; ComponentLink1Description: Manufacturer Link; ComponentLink1URL: http://www.st.com/
footprint DIP16-300 (DIP, Molded; 16 Leads; Row Spacing 7.62 mm; Pitch 2.54 mm)
pins: 1 CLK (in), 2 ~{CLR} (in), 3 ~{CI}/~{CE} (in), 4 J0 (in), 5 J1 (in), 6 J2 (in), 7 J3 (in), 8 GND (power), 9 ~{APE} (in), 10 J4 (in), 11 J5 (in), 12 J6 (in), 13 J7 (in), 14 ~{CO}/~{ZD} (out), 15 ~{SPE} (in), 16 VDD (power)

## CD40104BE
designator U?
4-Bit Bidirectional Universal Shift Register; Published: 8-Jun-2000; LatestRevisionDate: 06-Jun-2005; LatestRevisionNote: Stylized 3D Model Added.; DatasheetVersion: Jun-1989; PackageVersion: Apr-1996; PackageReference: DIP16; Publisher: Altium Limited; PackageDescription: DIP; 16 Leads; Row Spacing 7.62 mm; Pitch 2.54 mm; ComponentLink1Description: Manufacturer Link; ComponentLink1URL: http://www.st.com/
footprint DIP16-300 (DIP, Molded; 16 Leads; Row Spacing 7.62 mm; Pitch 2.54 mm)
pins: 1 OE (in), 2 SR (in), 3 D0 (in), 4 D1 (in), 5 D2 (in), 6 D3 (in), 7 SL (in), 8 GND (power), 9 SEL0 (in), 10 SEL1 (in), 11 CLK (in), 12 Q3 (hiz), 13 Q2 (hiz), 14 Q1 (hiz), 15 Q0 (hiz), 16 VDD (power)

## CD40106BE
designator U?
CMOS Hex Schmitt Triggers, N0014A, TUBE; Generic Part Number: CD40106B; Manufacturer: Texas Instruments; PartNumber: CD40106BE; VCC(Max)(V): 18; VCC(Min)(V): 3; ICC @ Nom Voltage(Max)(mA): 0.03; Bits(#): 6; F @ Nom Voltage(Max)(Mhz): 12; Rating: Catalog; Technology Family: CD4000; Voltage(Nom)(V): 5; Schmitt Trigger: Yes; Output Drive (IOL/IOH)(Max)(mA): -1/1; tpd @ Nom Voltage(Max)(ns): 280; DatasheetVersion: SCHS097D; PackageReference: N0014A; Output Type: CMOS; Input Type: CMOS; Operating Temperature Range(C): -55 to 125; ComponentLink1Description: Manufacturer URL; ComponentLink1URL: http://www.ti.com/; ComponentLink2Description: Datasheet; ComponentLink2URL: http://www.ti.com/lit/ds/symlink/cd40106b.pdf; ComponentLink3Description: Package Specification; ComponentLink3URL: http://www.ti.com/lit/ml/mpdi002c/mpdi002c.pdf
footprint DIP-14
part A pins: 1 A (in), 2 G=~{A} (out)
part B pins: 3 B (in), 4 H=~{B} (out)
part C pins: 5 C (in), 6 I=~{C} (out)
part D pins: 8 J=~{D} (out), 9 D (in)
part E pins: 10 K=~{E} (out), 11 E (in)
part F pins: 12 L=~{F} (out), 13 F (in)
part G pins: 7 VSS (power), 14 VDD (power)

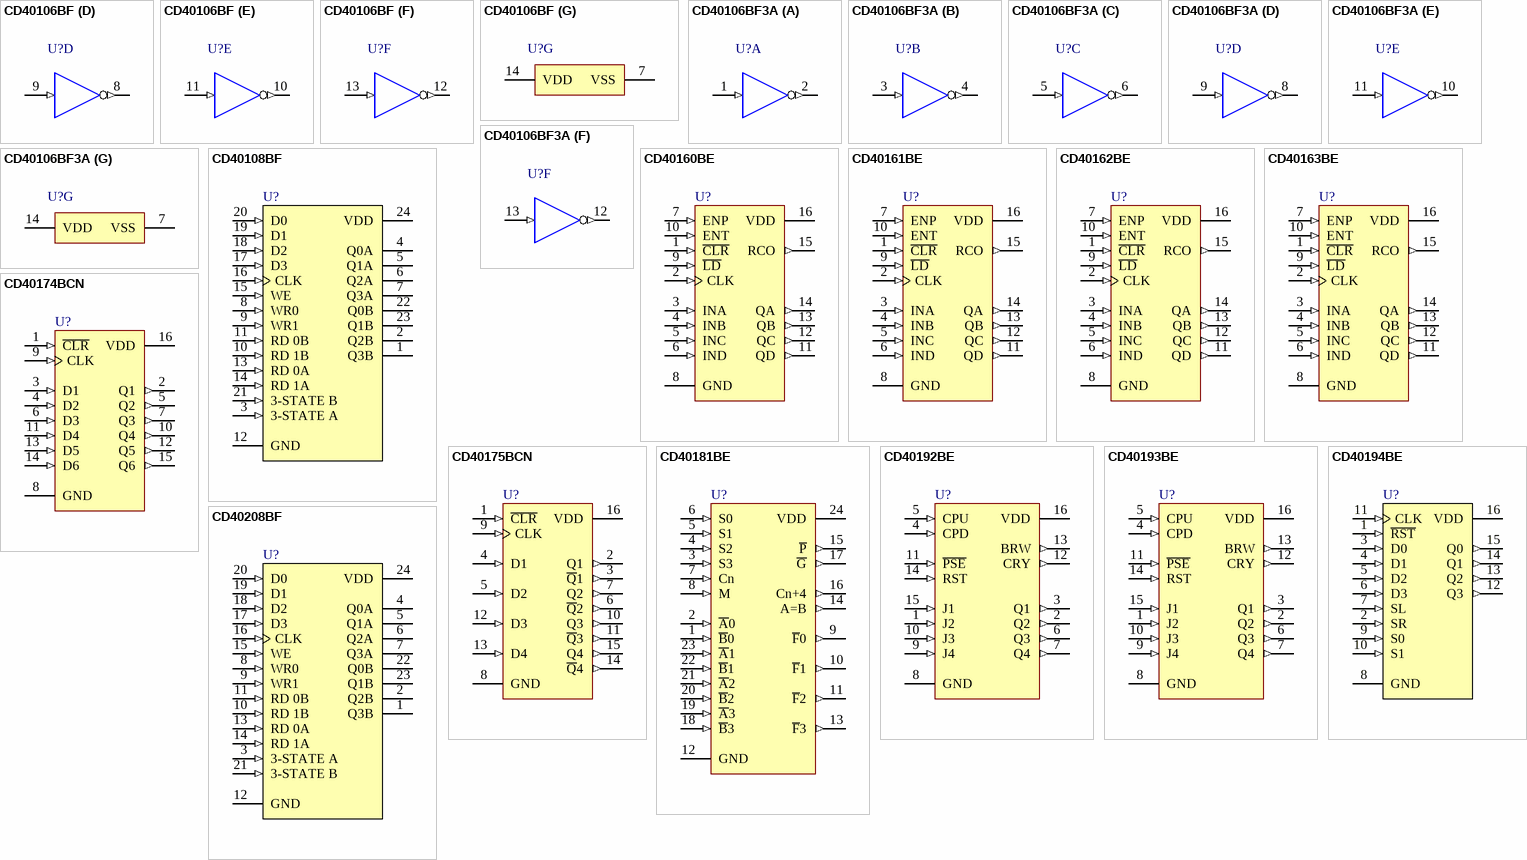
[diagram p7: symbols CD40106BF to CD40208BF]

## CD40106BF
designator U?
CMOS Hex Schmitt Triggers, J0014A, TUBE; Generic Part Number: CD40106B-MIL; Manufacturer: Texas Instruments; PartNumber: CD40106BF; VCC(Max)(V): 18; VCC(Min)(V): 3; ICC @ Nom Voltage(Max)(mA): 0.03; Bits(#): 6; F @ Nom Voltage(Max)(Mhz): 12; Rating: Military; Technology Family: CD4000; Voltage(Nom)(V): 5; Schmitt Trigger: Yes; Output Drive (IOL/IOH)(Max)(mA): -1/1; tpd @ Nom Voltage(Max)(ns): 280; DatasheetVersion: SCHS097D; PackageReference: J0014A; Output Type: CMOS; Input Type: CMOS; Operating Temperature Range(C): -55 to 125; ComponentLink1Description: Manufacturer URL; ComponentLink1URL: http://www.ti.com/; ComponentLink2Description: Datasheet; ComponentLink2URL: http://www.ti.com/lit/ds/symlink/cd40106b-mil.pdf; ComponentLink3Description: Package Specification; ComponentLink3URL: http://www.ti.com/lit/ml/mcer002d/mcer002d.pdf
footprint DIP-14
part A pins: 1 A (in), 2 G=~{A} (out)
part B pins: 3 B (in), 4 H=~{B} (out)
part C pins: 5 C (in), 6 I=~{C} (out)
part D pins: 8 J=~{D} (out), 9 D (in)
part E pins: 10 K=~{E} (out), 11 E (in)
part F pins: 12 L=~{F} (out), 13 F (in)
part G pins: 7 VSS (power), 14 VDD (power)

## CD40106BF3A
designator U?
CMOS Hex Schmitt Triggers, J0014A, TUBE; Generic Part Number: CD40106B-MIL; Manufacturer: Texas Instruments; PartNumber: CD40106BF3A; VCC(Max)(V): 18; VCC(Min)(V): 3; ICC @ Nom Voltage(Max)(mA): 0.03; Bits(#): 6; F @ Nom Voltage(Max)(Mhz): 12; Rating: Military; Technology Family: CD4000; Voltage(Nom)(V): 5; Schmitt Trigger: Yes; Output Drive (IOL/IOH)(Max)(mA): -1/1; tpd @ Nom Voltage(Max)(ns): 280; DatasheetVersion: SCHS097D; PackageReference: J0014A; Output Type: CMOS; Input Type: CMOS; Operating Temperature Range(C): -55 to 125; ComponentLink1Description: Manufacturer URL; ComponentLink1URL: http://www.ti.com/; ComponentLink2Description: Datasheet; ComponentLink2URL: http://www.ti.com/lit/ds/symlink/cd40106b-mil.pdf; ComponentLink3Description: Package Specification; ComponentLink3URL: http://www.ti.com/lit/ml/mcer002d/mcer002d.pdf
footprint DIP-14
part A pins: 1 A (in), 2 G=~{A} (out)
part B pins: 3 B (in), 4 H=~{B} (out)
part C pins: 5 C (in), 6 I=~{C} (out)
part D pins: 8 J=~{D} (out), 9 D (in)
part E pins: 10 K=~{E} (out), 11 E (in)
part F pins: 12 L=~{F} (out), 13 F (in)
part G pins: 7 VSS (power), 14 VDD (power)

## CD40108BF
designator U?
4 x 4 Multiport Register; Published: 8-Jun-2000; LatestRevisionDate: 06-Jun-2005; LatestRevisionNote: Stylized 3D Model Added.; DatasheetVersion: Sep-1988; PackageVersion: Sep-1988; PackageReference: CDIP24; Publisher: Altium Limited; PackageDescription: DIP; 24 Leads; Row Spacing 15.24 mm; Pitch 2.54 mm; ComponentLink1Description: Manufacturer Link; ComponentLink1URL: http://www.st.com/
footprint DIP-24-600 (DIP; 24 Leads; Row Spacing 15.24 mm; Pitch 2.54 mm)
pins: 1 Q3B (hiz), 2 Q2B (hiz), 3 3-STATE A (in), 4 Q0A (hiz), 5 Q1A (hiz), 6 Q2A (hiz), 7 Q3A (hiz), 8 WR0 (in), 9 WR1 (in), 10 RD 1B (in), 11 RD 0B (in), 12 GND (power), 13 RD 0A (in), 14 RD 1A (in), 15 WE (in), 16 CLK (in), 17 D3 (in), 18 D2 (in), 19 D1 (in), 20 D0 (in), 21 3-STATE B (in), 22 Q0B (hiz), 23 Q1B (hiz), 24 VDD (power)

## CD40160BE
designator U?
Synchronous Programmable 4-Bit Counter; Published: 8-Jun-2000; LatestRevisionDate: 06-Jun-2005; LatestRevisionNote: Stylized 3D Model Added.; DatasheetVersion: Sep-1988; PackageVersion: Apr-1996; PackageReference: DIP16; Publisher: Altium Limited; PackageDescription: DIP; 16 Leads; Row Spacing 7.62 mm; Pitch 2.54 mm; ComponentLink1Description: Manufacturer Link; ComponentLink1URL: http://www.st.com/
footprint DIP16-300 (DIP, Molded; 16 Leads; Row Spacing 7.62 mm; Pitch 2.54 mm)
pins: 1 ~{CLR} (in), 2 CLK (in), 3 INA (in), 4 INB (in), 5 INC (in), 6 IND (in), 7 ENP (in), 8 GND (power), 9 ~{LD} (in), 10 ENT (in), 11 QD (out), 12 QC (out), 13 QB (out), 14 QA (out), 15 RCO (out), 16 VDD (power)

## CD40161BE
designator U?
Synchronous Programmable 4-Bit Counter; Published: 8-Jun-2000; LatestRevisionDate: 06-Jun-2005; LatestRevisionNote: Stylized 3D Model Added.; DatasheetVersion: Sep-1988; PackageVersion: Apr-1996; PackageReference: DIP16; Publisher: Altium Limited; PackageDescription: DIP; 16 Leads; Row Spacing 7.62 mm; Pitch 2.54 mm; ComponentLink1Description: Manufacturer Link; ComponentLink1URL: http://www.st.com/
footprint DIP16-300 (DIP, Molded; 16 Leads; Row Spacing 7.62 mm; Pitch 2.54 mm)
pins: 1 ~{CLR} (in), 2 CLK (in), 3 INA (in), 4 INB (in), 5 INC (in), 6 IND (in), 7 ENP (in), 8 GND (power), 9 ~{LD} (in), 10 ENT (in), 11 QD (out), 12 QC (out), 13 QB (out), 14 QA (out), 15 RCO (out), 16 VDD (power)

## CD40162BE
designator U?
Synchronous Programmable 4-Bit Counter; Published: 8-Jun-2000; LatestRevisionDate: 06-Jun-2005; LatestRevisionNote: Stylized 3D Model Added.; DatasheetVersion: Sep-1988; PackageVersion: Apr-1996; PackageReference: DIP16; Publisher: Altium Limited; PackageDescription: DIP; 16 Leads; Row Spacing 7.62 mm; Pitch 2.54 mm; ComponentLink1Description: Manufacturer Link; ComponentLink1URL: http://www.st.com/
footprint DIP16-300 (DIP, Molded; 16 Leads; Row Spacing 7.62 mm; Pitch 2.54 mm)
pins: 1 ~{CLR} (in), 2 CLK (in), 3 INA (in), 4 INB (in), 5 INC (in), 6 IND (in), 7 ENP (in), 8 GND (power), 9 ~{LD} (in), 10 ENT (in), 11 QD (out), 12 QC (out), 13 QB (out), 14 QA (out), 15 RCO (out), 16 VDD (power)

## CD40163BE
designator U?
Synchronous Programmable 4-Bit Counter; Published: 8-Jun-2000; LatestRevisionDate: 06-Jun-2005; LatestRevisionNote: Stylized 3D Model Added.; DatasheetVersion: Sep-1988; PackageVersion: Apr-1996; PackageReference: DIP16; Publisher: Altium Limited; PackageDescription: DIP; 16 Leads; Row Spacing 7.62 mm; Pitch 2.54 mm; ComponentLink1Description: Manufacturer Link; ComponentLink1URL: http://www.st.com/
footprint DIP16-300 (DIP, Molded; 16 Leads; Row Spacing 7.62 mm; Pitch 2.54 mm)
pins: 1 ~{CLR} (in), 2 CLK (in), 3 INA (in), 4 INB (in), 5 INC (in), 6 IND (in), 7 ENP (in), 8 GND (power), 9 ~{LD} (in), 10 ENT (in), 11 QD (out), 12 QC (out), 13 QB (out), 14 QA (out), 15 RCO (out), 16 VDD (power)

## CD40174BCN
designator U?
Hex D-Type Flip-Flop; Published: 17-Jul-2002; LatestRevisionDate: 29-May-2009; LatestRevisionNote: Component Body Added.; DatasheetVersion: Jan-1999; PackageVersion: 2000; PackageReference: N16E; Publisher: Altium Limited; PackageDescription: DIP, 16-Pin, Row Spacing 7.62 mm, Pitch 2.54 mm; ComponentLink1Description: Manufacturer Link; ComponentLink1URL: http://www.fairchildsemi.com/; ComponentLink2Description: Datasheet; ComponentLink2URL: http://www.fairchildsemi.com/ds/CD%2FCD40174BC.pdf
footprint DIP16-300 (DIP, Molded; 16 Leads; Row Spacing 7.62 mm; Pitch 2.54 mm)
pins: 1 ~{CLR} (in), 2 Q1 (out), 3 D1 (in), 4 D2 (in), 5 Q2 (out), 6 D3 (in), 7 Q3 (out), 8 GND (power), 9 CLK (in), 10 Q4 (out), 11 D4 (in), 12 Q5 (out), 13 D5 (in), 14 D6 (in), 15 Q6 (out), 16 VDD (power)

## CD40175BCN
designator U?
Quad D-Type Flip-Flop; Published: 17-Jul-2002; LatestRevisionDate: 29-May-2009; LatestRevisionNote: Component Body Added.; DatasheetVersion: Jan-1999; PackageVersion: 2000; PackageReference: N16E; Publisher: Altium Limited; PackageDescription: DIP, 16-Pin, Row Spacing 7.62 mm, Pitch 2.54 mm; ComponentLink1Description: Manufacturer Link; ComponentLink1URL: http://www.fairchildsemi.com/; ComponentLink2Description: Datasheet; ComponentLink2URL: http://www.fairchildsemi.com/ds/CD%2FCD40174BC.pdf
footprint DIP16-300 (DIP, Molded; 16 Leads; Row Spacing 7.62 mm; Pitch 2.54 mm)
pins: 1 ~{CLR} (in), 2 Q1 (out), 3 ~{Q}1 (out), 4 D1 (in), 5 D2 (in), 6 ~{Q}2 (out), 7 Q2 (out), 8 GND (power), 9 CLK (in), 10 Q3 (out), 11 ~{Q}3 (out), 12 D3 (in), 13 D4 (in), 14 ~{Q}4 (out), 15 Q4 (out), 16 VDD (power)

## CD40181BE
designator U?
4-Bit Arithmetic Logic Unit; Published: 8-Jun-2000; LatestRevisionDate: 06-Jun-2005; LatestRevisionNote: Stylized 3D Model Added.; DatasheetVersion: Jun-1989; PackageVersion: Sep-1988; PackageReference: CDIP24; Publisher: Altium Limited; PackageDescription: DIP; 24 Leads; Row Spacing 15.24 mm; Pitch 2.54 mm; ComponentLink1Description: Manufacturer Link; ComponentLink1URL: http://www.st.com/; ComponentLink2Description: Datasheet; ComponentLink2URL: http://www.st.com/stonline/products/literature/ds/2032/hcf4018.pdf
footprint DIP-24-600 (DIP; 24 Leads; Row Spacing 15.24 mm; Pitch 2.54 mm)
pins: 1 ~{B}0 (in), 2 ~{A}0 (in), 3 S3 (in), 4 S2 (in), 5 S1 (in), 6 S0 (in), 7 Cn (in), 8 M (in), 9 ~{F}0 (out), 10 ~{F}1 (out), 11 ~{F}2 (out), 12 GND (power), 13 ~{F}3 (out), 14 A=B (out), 15 ~{P} (out), 16 Cn+4 (out), 17 ~{G} (out), 18 ~{B}3 (in), 19 ~{A}3 (in), 20 ~{B}2 (in), 21 ~{A}2 (in), 22 ~{B}1 (in), 23 ~{A}1 (in), 24 VDD (power)

## CD40192BE
designator U?
Presettable Up/Down Counter (Dual Clock with Reset) BCD Type; Published: 8-Jun-2000; LatestRevisionDate: 06-Jun-2005; LatestRevisionNote: Stylized 3D Model Added.; DatasheetVersion: Jun-1989; PackageVersion: Apr-1996; PackageReference: DIP16; Publisher: Altium Limited; PackageDescription: DIP; 16 Leads; Row Spacing 7.62 mm; Pitch 2.54 mm; ComponentLink1Description: Manufacturer Link; ComponentLink1URL: http://www.st.com/
footprint DIP16-300 (DIP, Molded; 16 Leads; Row Spacing 7.62 mm; Pitch 2.54 mm)
pins: 1 J2 (in), 2 Q2 (out), 3 Q1 (out), 4 CPD (in), 5 CPU (in), 6 Q3 (out), 7 Q4 (out), 8 GND (power), 9 J4 (in), 10 J3 (in), 11 ~{PSE} (in), 12 CRY (out), 13 BRW (out), 14 RST (in), 15 J1 (in), 16 VDD (power)